# EAGLE library part BQ32000 (library custom)
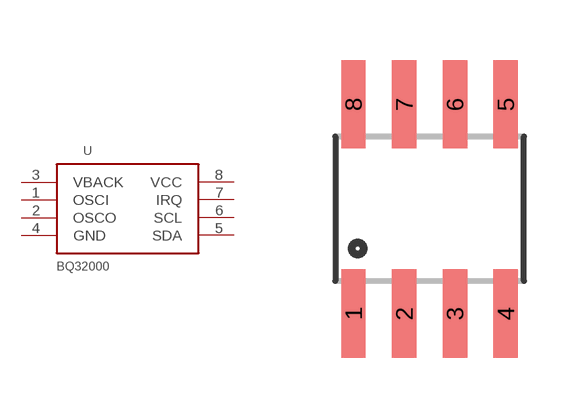
[diagram p4: symbol with the pads of SO08; footprint SO08]

Designator prefix -

## BQ32000  [SO08]
1  OSCI
2  OSCO
3  VBACK
4  GND
5  SDA
6  SCL  in
7  IRQ  out
8  VCC  pwr

## Footprint SO08 (pad centres in mm)
Small Outline Package Fits JEDEC packages (narrow SOIC-8)
smd 0.61 x 2.21: 1 -1.905,-2.616; 2 -0.635,-2.616; 3 0.635,-2.616; 4 1.905,-2.616; 5 1.905,2.616; 6 0.635,2.616; 7 -0.635,2.616; 8 -1.905,2.616